# Altium footprint library SparkFun-Hardware.PCBLIB: 30 footprints (part 1 of 2)
Each footprint in its own frame and in the unit in brackets; x right, y up, seen from the top. Pads: shape width x height; smd on the part's side, far side on the other; paste and mask are expansions set on the pad; w line width, h text height; cw(c..) or ccw(c..) is an arc to the next point about the centre after c.
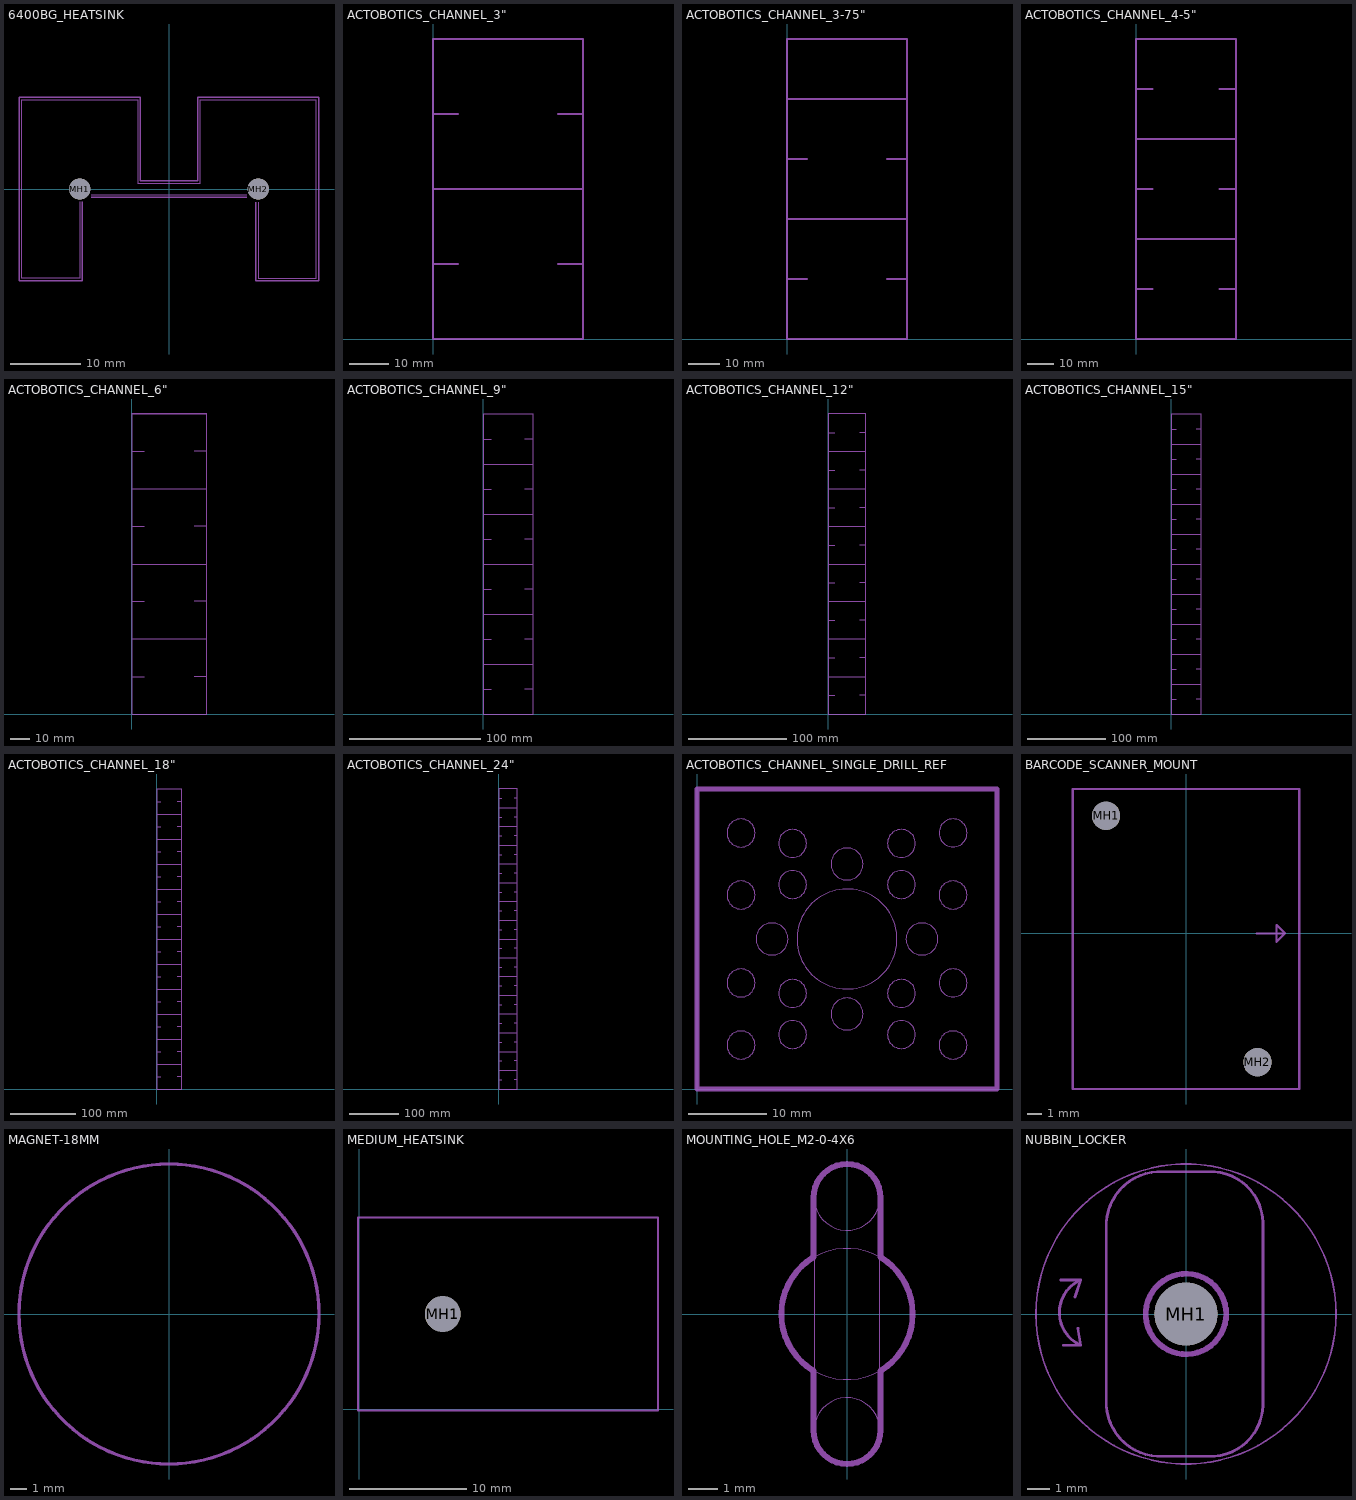
[diagram p0: the footprints below, top view; thin cyan lines are the x and y axes]

## 6400BG_HEATSINK [mil]
pads (2):
  round 118 hole 118 unplated: MH1(-500,0) MH2(500,0)
tDocu:
  lines w5: -500,-70 -500,-500 -825,-500 -825,500 -175,500 -175,31 175,31 175,500 825,500 825,-500 500,-500 500,-75 ; -435,-31 435,-31
tPlace:
  lines w8: -485,-70 -485,-515 -840,-515 -840,515 -160,515 -160,46 160,46 160,515 840,515 840,-515 485,-515 485,-75 ; -435,-46 435,-46

## ACTOBOTICS_CHANNEL_3" [mm]
tDocu:
  lines w0.61: 6.35,19.05 0,19.05 ; 6.35,57.15 0,57.15 ; 31.75,19.05 38.1,19.05 ; 31.75,57.15 38.1,57.15 ; 0,19.05 0,38.1 ; 0,19.05 0,0 38.1,0 38.1,19.05 ; 0,38.1 0,57.15 ; 0,38.1 38.1,38.1 ; 0,57.15 0,76.2 ; 0,76.2 38.1,76.2 ; 0,76.2 38.1,76.2 ; 38.1,19.05 38.1,38.1 ; 38.1,38.1 38.1,57.15 ; 38.1,57.15 38.1,76.2
  text "3" at 19.05,19.05 h5.48

## ACTOBOTICS_CHANNEL_3-75" [mm]
tDocu:
  lines w0.61: 6.35,19.05 0,19.05 ; 6.35,57.15 0,57.15 ; 6.35,95.25 0,95.25 ; 31.75,19.05 38.1,19.05 ; 31.75,57.15 38.1,57.15 ; 31.75,95.25 38.1,95.25 ; 0,19.05 0,38.1 ; 0,19.05 0,0 38.1,0 38.1,19.05 ; 0,38.1 0,57.15 ; 0,38.1 38.1,38.1 ; 0,57.15 0,76.2 ; 0,76.2 0,95.25 ; 0,76.2 38.1,76.2 ; 0,95.25 38.1,95.25 ; 38.1,19.05 38.1,38.1 ; 38.1,38.1 38.1,57.15 ; 38.1,57.15 38.1,76.2 ; 38.1,76.2 38.1,95.25
  text "3.75" at 19.05,19.05 h5.48

## ACTOBOTICS_CHANNEL_4-5" [mm]
tDocu:
  lines w0.61: 0,95.25 6.35,95.25 ; 6.35,19.05 0,19.05 ; 6.35,57.15 0,57.15 ; 31.75,19.05 38.1,19.05 ; 31.75,57.15 38.1,57.15 ; 31.75,95.25 38.1,95.25 ; 0,19.05 0,38.1 ; 0,19.05 0,0 38.1,0 38.1,19.05 ; 0,38.1 0,57.15 ; 0,38.1 38.1,38.1 ; 0,57.15 0,76.2 ; 0,76.2 0,114.3 38.1,114.3 38.1,76.2 ; 0,76.2 38.1,76.2 ; 38.1,19.05 38.1,38.1 ; 38.1,38.1 38.1,57.15 ; 38.1,57.15 38.1,76.2
  text "4.5" at 19.05,19.05 h5.48

## ACTOBOTICS_CHANNEL_6" [mm]
tDocu:
  lines w0.61: 0,95.25 6.35,95.25 ; 0,133.35 6.35,133.35 ; 6.35,19.05 0,19.05 ; 6.35,57.15 0,57.15 ; 31.75,19.05 38.1,19.05 ; 31.75,57.15 38.1,57.15 ; 31.75,95.25 38.1,95.25 ; 31.75,133.35 38.1,133.35 ; 0,19.05 0,38.1 ; 0,19.05 0,0 38.1,0 38.1,19.05 ; 0,38.1 0,57.15 ; 0,38.1 38.1,38.1 ; 0,57.15 0,76.2 ; 0,76.2 0,114.3 ; 0,76.2 38.1,76.2 ; 0,114.3 0,152.4 ; 0,114.3 38.1,114.3 ; 0,152.4 38.1,152.4 ; 0,152.4 38.1,152.4 ; 38.1,19.05 38.1,38.1 ; 38.1,38.1 38.1,57.15 ; 38.1,57.15 38.1,76.2 ; 38.1,76.2 38.1,114.3 ; 38.1,114.3 38.1,152.4
  text "6" at 19.05,19.05 h5.48

## ACTOBOTICS_CHANNEL_9" [mm]
tDocu:
  lines w0.61: 0,95.25 6.35,95.25 ; 0,133.35 6.35,133.35 ; 0,171.45 6.35,171.45 ; 0,209.55 6.35,209.55 ; 6.35,19.05 0,19.05 ; 6.35,57.15 0,57.15 ; 31.75,19.05 38.1,19.05 ; 31.75,57.15 38.1,57.15 ; 31.75,95.25 38.1,95.25 ; 31.75,133.35 38.1,133.35 ; 31.75,171.45 38.1,171.45 ; 31.75,209.55 38.1,209.55 ; 0,19.05 0,38.1 ; 0,19.05 0,0 38.1,0 38.1,19.05 ; 0,38.1 0,57.15 ; 0,38.1 38.1,38.1 ; 0,57.15 0,76.2 ; 0,76.2 0,114.3 ; 0,76.2 38.1,76.2 ; 0,114.3 0,152.4 ; 0,114.3 38.1,114.3 ; 0,152.4 0,190.5 ; 0,152.4 38.1,152.4 ; 0,190.5 0,228.6 38.1,228.6 38.1,190.5 ; 0,190.5 38.1,190.5 ; 38.1,19.05 38.1,38.1 ; 38.1,38.1 38.1,57.15 ; 38.1,57.15 38.1,76.2 ; 38.1,76.2 38.1,114.3 ; 38.1,114.3 38.1,152.4 ; 38.1,152.4 38.1,190.5
  text "9" at 19.05,19.05 h5.48

## ACTOBOTICS_CHANNEL_12" [mm]
tDocu:
  lines w0.61: 0,95.25 6.35,95.25 ; 0,133.35 6.35,133.35 ; 0,171.45 6.35,171.45 ; 0,209.55 6.35,209.55 ; 0,228.6 38.1,228.6 ; 0,247.65 6.35,247.65 ; 0,266.7 38.1,266.7 ; 0,285.75 6.35,285.75 ; 6.35,19.05 0,19.05 ; 6.35,57.15 0,57.15 ; 31.75,19.05 38.1,19.05 ; 31.75,57.15 38.1,57.15 ; 31.75,95.25 38.1,95.25 ; 31.75,133.35 38.1,133.35 ; 31.75,171.45 38.1,171.45 ; 31.75,209.55 38.1,209.55 ; 31.75,247.65 38.1,247.65 ; 31.75,285.75 38.1,285.75 ; 0,19.05 0,38.1 ; 0,19.05 0,0 38.1,0 38.1,19.05 ; 0,38.1 0,57.15 ; 0,38.1 38.1,38.1 ; 0,57.15 0,76.2 ; 0,76.2 0,114.3 ; 0,76.2 38.1,76.2 ; 0,114.3 0,152.4 ; 0,114.3 38.1,114.3 ; 0,152.4 0,190.5 ; 0,152.4 38.1,152.4 ; 0,190.5 0,304.8 38.1,304.8 38.1,190.5 ; 0,190.5 38.1,190.5 ; 38.1,19.05 38.1,38.1 ; 38.1,38.1 38.1,57.15 ; 38.1,57.15 38.1,76.2 ; 38.1,76.2 38.1,114.3 ; 38.1,114.3 38.1,152.4 ; 38.1,152.4 38.1,190.5
  text "12" at 19.05,19.05 h5.48

## ACTOBOTICS_CHANNEL_15" [mm]
tDocu:
  lines w0.61: 0,95.25 6.35,95.25 ; 0,133.35 6.35,133.35 ; 0,171.45 6.35,171.45 ; 0,209.55 6.35,209.55 ; 0,228.6 38.1,228.6 ; 0,247.65 6.35,247.65 ; 0,266.7 38.1,266.7 ; 0,285.75 6.35,285.75 ; 0,323.85 6.35,323.85 ; 0,361.95 6.35,361.95 ; 6.35,19.05 0,19.05 ; 6.35,57.15 0,57.15 ; 31.75,19.05 38.1,19.05 ; 31.75,57.15 38.1,57.15 ; 31.75,95.25 38.1,95.25 ; 31.75,133.35 38.1,133.35 ; 31.75,171.45 38.1,171.45 ; 31.75,209.55 38.1,209.55 ; 31.75,247.65 38.1,247.65 ; 31.75,285.75 38.1,285.75 ; 31.75,323.85 38.1,323.85 ; 31.75,361.95 38.1,361.95 ; 0,19.05 0,38.1 ; 0,19.05 0,0 38.1,0 38.1,19.05 ; 0,38.1 0,57.15 ; 0,38.1 38.1,38.1 ; 0,57.15 0,76.2 ; 0,76.2 0,114.3 ; 0,76.2 38.1,76.2 ; 0,114.3 0,152.4 ; 0,114.3 38.1,114.3 ; 0,152.4 0,190.5 ; 0,152.4 38.1,152.4 ; 0,190.5 0,304.8 ; 0,190.5 38.1,190.5 ; 0,304.8 0,342.9 ; 0,304.8 38.1,304.8 ; 0,342.9 0,381 38.1,381 38.1,342.9 ; 0,342.9 38.1,342.9 ; 38.1,19.05 38.1,38.1 ; 38.1,38.1 38.1,57.15 ; 38.1,57.15 38.1,76.2 ; 38.1,76.2 38.1,114.3 ; 38.1,114.3 38.1,152.4 ; 38.1,152.4 38.1,190.5 ; 38.1,190.5 38.1,304.8 ; 38.1,304.8 38.1,342.9
  text "15" at 19.05,19.05 h5.48

## ACTOBOTICS_CHANNEL_18" [mm]
tDocu:
  lines w0.61: 0,95.25 6.35,95.25 ; 0,133.35 6.35,133.35 ; 0,171.45 6.35,171.45 ; 0,209.55 6.35,209.55 ; 0,228.6 38.1,228.6 ; 0,247.65 6.35,247.65 ; 0,266.7 38.1,266.7 ; 0,285.75 6.35,285.75 ; 0,323.85 6.35,323.85 ; 0,361.95 6.35,361.95 ; 6.35,19.05 0,19.05 ; 6.35,57.15 0,57.15 ; 6.35,400.05 0,400.05 ; 6.35,438.15 0,438.15 ; 31.75,19.05 38.1,19.05 ; 31.75,57.15 38.1,57.15 ; 31.75,95.25 38.1,95.25 ; 31.75,133.35 38.1,133.35 ; 31.75,171.45 38.1,171.45 ; 31.75,209.55 38.1,209.55 ; 31.75,247.65 38.1,247.65 ; 31.75,285.75 38.1,285.75 ; 31.75,323.85 38.1,323.85 ; 31.75,361.95 38.1,361.95 ; 31.75,400.05 38.1,400.05 ; 31.75,438.15 38.1,438.15 ; 0,19.05 0,38.1 ; 0,19.05 0,0 38.1,0 38.1,19.05 ; 0,38.1 0,57.15 ; 0,38.1 38.1,38.1 ; 0,57.15 0,76.2 ; 0,76.2 0,114.3 ; 0,76.2 38.1,76.2 ; 0,114.3 0,152.4 ; 0,114.3 38.1,114.3 ; 0,152.4 0,190.5 ; 0,152.4 38.1,152.4 ; 0,190.5 0,304.8 ; 0,190.5 38.1,190.5 ; 0,304.8 0,342.9 ; 0,304.8 38.1,304.8 ; 0,342.9 0,381 ; 0,342.9 38.1,342.9 ; 0,381 0,400.05 ; 0,381 38.1,381 ; 0,400.05 0,419.1 ; 0,419.1 0,438.15 ; 0,419.1 38.1,419.1 ; 0,438.15 0,457.2 38.1,457.2 38.1,438.15 ; 38.1,19.05 38.1,38.1 ; 38.1,38.1 38.1,57.15 ; 38.1,57.15 38.1,76.2 ; 38.1,76.2 38.1,114.3 ; 38.1,114.3 38.1,152.4 ; 38.1,152.4 38.1,190.5 ; 38.1,190.5 38.1,304.8 ; 38.1,304.8 38.1,342.9 ; 38.1,342.9 38.1,381 ; 38.1,381 38.1,400.05 ; 38.1,400.05 38.1,419.1 ; 38.1,419.1 38.1,438.15
  text "18" at 19.05,19.05 h5.48

## ACTOBOTICS_CHANNEL_24" [mm]
tDocu:
  lines w0.61: 0,95.25 6.35,95.25 ; 0,133.35 6.35,133.35 ; 0,171.45 6.35,171.45 ; 0,209.55 6.35,209.55 ; 0,228.6 38.1,228.6 ; 0,247.65 6.35,247.65 ; 0,266.7 38.1,266.7 ; 0,285.75 6.35,285.75 ; 0,323.85 6.35,323.85 ; 0,361.95 6.35,361.95 ; 0,457.2 38.1,457.2 ; 0,476.25 6.35,476.25 ; 0,495.3 38.1,495.3 ; 0,514.35 6.35,514.35 ; 0,533.4 38.1,533.4 ; 0,552.45 6.35,552.45 ; 0,571.5 38.1,571.5 ; 0,590.55 6.35,590.55 ; 6.35,19.05 0,19.05 ; 6.35,57.15 0,57.15 ; 6.35,400.05 0,400.05 ; 6.35,438.15 0,438.15 ; 31.75,19.05 38.1,19.05 ; 31.75,57.15 38.1,57.15 ; 31.75,95.25 38.1,95.25 ; 31.75,133.35 38.1,133.35 ; 31.75,171.45 38.1,171.45 ; 31.75,209.55 38.1,209.55 ; 31.75,247.65 38.1,247.65 ; 31.75,285.75 38.1,285.75 ; 31.75,323.85 38.1,323.85 ; 31.75,361.95 38.1,361.95 ; 31.75,400.05 38.1,400.05 ; 31.75,438.15 38.1,438.15 ; 31.75,476.25 38.1,476.25 ; 31.75,514.35 38.1,514.35 ; 31.75,552.45 38.1,552.45 ; 31.75,590.55 38.1,590.55 ; 0,19.05 0,38.1 ; 0,19.05 0,0 38.1,0 38.1,19.05 ; 0,38.1 0,57.15 ; 0,38.1 38.1,38.1 ; 0,57.15 0,76.2 ; 0,76.2 0,114.3 ; 0,76.2 38.1,76.2 ; 0,114.3 0,152.4 ; 0,114.3 38.1,114.3 ; 0,152.4 0,190.5 ; 0,152.4 38.1,152.4 ; 0,190.5 0,304.8 ; 0,190.5 38.1,190.5 ; 0,304.8 0,342.9 ; 0,304.8 38.1,304.8 ; 0,342.9 0,381 ; 0,342.9 38.1,342.9 ; 0,381 0,400.05 ; 0,381 38.1,381 ; 0,400.05 0,419.1 ; 0,419.1 0,438.15 ; 0,419.1 38.1,419.1 ; 0,438.15 0,609.6 38.1,609.6 38.1,438.15 ; 38.1,19.05 38.1,38.1 ; 38.1,38.1 38.1,57.15 ; 38.1,57.15 38.1,76.2 ; 38.1,76.2 38.1,114.3 ; 38.1,114.3 38.1,152.4 ; 38.1,152.4 38.1,190.5 ; 38.1,190.5 38.1,304.8 ; 38.1,304.8 38.1,342.9 ; 38.1,342.9 38.1,381 ; 38.1,381 38.1,400.05 ; 38.1,400.05 38.1,419.1 ; 38.1,419.1 38.1,438.15
  text "24" at 19.05,19.05 h5.48

## ACTOBOTICS_CHANNEL_SINGLE_DRILL_REF [mm]
tDocu:
  circle w0.025: c5.588,5.588 r1.778
  circle w0.025: c25.965,25.965 r1.778
  circle w0.025: c5.588,32.512 r1.778
  circle w0.025: c32.512,5.588 r1.778
  circle w0.025: c32.521,32.521 r1.778
  circle w0.025: c12.135,25.965 r1.778
  circle w0.025: c12.135,12.135 r1.778
  circle w0.025: c25.965,12.135 r1.778
  circle w0.025: c19.05,19.05 r6.35
  circle w0.025: c5.588,24.638 r1.778
  circle w0.025: c32.512,24.638 r1.778
  circle w0.025: c12.135,31.185 r1.778
  circle w0.025: c25.965,31.185 r1.778
  circle w0.025: c19.05,28.575 r2.032
  circle w0.025: c19.05,9.525 r2.032
  circle w0.025: c28.575,19.05 r2.032
  circle w0.025: c9.525,19.05 r2.032
  circle w0.025: c25.965,6.915 r1.778
  circle w0.025: c5.588,13.462 r1.778
  circle w0.025: c32.521,13.471 r1.778
  circle w0.025: c12.135,6.915 r1.778
  circle w0.025: c5.588,5.588 r1.778
  circle w0.025: c25.965,25.965 r1.778
  circle w0.025: c5.588,32.512 r1.778
  circle w0.025: c32.512,5.588 r1.778
  circle w0.025: c32.521,32.521 r1.778
  circle w0.025: c12.135,25.965 r1.778
  circle w0.025: c12.135,12.135 r1.778
  circle w0.025: c25.965,12.135 r1.778
  circle w0.025: c19.05,19.05 r6.35
  circle w0.025: c19.05,9.525 r2.032
  circle w0.025: c5.588,24.638 r1.778
  circle w0.025: c32.512,24.638 r1.778
  circle w0.025: c12.135,31.185 r1.778
  circle w0.025: c25.965,31.185 r1.778
  circle w0.025: c19.05,28.575 r2.032
  circle w0.025: c25.965,25.965 r1.778
  circle w0.025: c5.588,32.512 r1.778
  circle w0.025: c32.521,32.521 r1.778
  circle w0.025: c12.135,25.965 r1.778
  circle w0.025: c5.588,24.638 r1.778
  circle w0.025: c32.512,24.638 r1.778
  circle w0.025: c12.135,31.185 r1.778
  circle w0.025: c25.965,31.185 r1.778
  circle w0.025: c19.05,28.575 r2.032
  lines w0.61: 0,0 0,38.1 38.1,38.1 38.1,0 0,0
  text "0.5\"" at 19.05,19.05 h1.08
  text "0.14\"" at 12.135,31.185 h0.52
  text "0.14\"" at 25.965,31.185 h0.52
  text "0.14\"" at 32.521,32.521 h0.52
  text "0.14\"" at 32.512,24.638 h0.52
  text "0.14\"" at 25.965,25.965 h0.52
  text "0.14\"" at 32.521,13.471 h0.52
  text "0.14\"" at 25.965,12.135 h0.52
  text "0.14\"" at 32.512,5.588 h0.52
  text "0.14\"" at 25.965,6.915 h0.52
  text "0.14\"" at 5.588,24.638 h0.52
  text "0.14\"" at 12.135,25.965 h0.52
  text "0.14\"" at 5.588,13.462 h0.52
  text "0.14\"" at 12.135,12.135 h0.52
  text "0.14\"" at 12.135,6.915 h0.52
  text "0.14\"" at 5.588,5.588 h0.52
  text "0.14\"" at 5.588,32.512 h0.52
  text "0.16\"" at 19.05,28.575 h0.52
  text "0.16\"" at 28.575,19.05 h0.52
  text "0.16\"" at 9.525,19.05 h0.52
  text "0.16\"" at 19.05,9.525 h0.52

## BARCODE_SCANNER_MOUNT [mm]
pads (2):
  round 2 hole 2 unplated: MH1(-5.65,8.3) MH2(5.05,-9.1)
tDocu:
  text "connector side" at -7,-10 h0.94
bDocu:
  lines w0.152: -8,-11 8,-11 8,10.2 -8,10.2 -8,-11
tPlace:
  lines w0.152: 5,0 7,0 ; 7,0 6.4,0.6 6.4,-0.6 7,0 ; -8,-11 8,-11 8,10.2 -8,10.2 -8,-11
  text "Lens This Way" at 3,5 h1.57

## MAGNET-18MM [mm]
tPlace:
  circle w0.203: c0,0 r9

## MEDIUM_HEATSINK [mil]
pads (1):
  round 120 hole 120 unplated: MH1(280,320)
Bottom Solder:
  region: 0,0 0,640 1000,640 1000,0
bPlace:
  lines w6: -5,-5 1005,-5 1005,645 -5,645 -5,-5

## MOUNTING_HOLE_M2-0-4X6 [mm]
Dimension:
  lines w0.203: -1.15,-4 -1.15,-1.95 cw(c0.018,0) -1.15,1.95 -1.15,4 cw(c0,4) 1.15,4 1.15,1.95 cw(c-0.018,0) 1.15,-1.95 1.15,-4 cw(c0,-4) -1.15,-4
  text "Out'" at 0,0 h0.78
tDocu:
  circle w0.03: c0,0 r2.25
  circle w0.03: c0,-4 r1.125
  circle w0.03: c0,4 r1.125
  lines w0.03: -1.125,-4 -1.125,4 ; 1.125,-4 1.125,4

## NUBBIN_LOCKER [mil]
pads (1):
  round 110 hole 110 unplated: MH1(0,0)
Reference:
  circle w10: c0,0 r70.71
  circle w3: c0,0 r263.48
  lines w5: -220,60 -185,60 -195,30 ; -215,-55 -185,-55 -190,-25 ; -189.48,57.67 ccw(c-159.98,2.55) -186.43,-54.09 ; -140,-150 -140,150 cw(c-45,155) -50,250 50,250 cw(c42.5,157.5) 135,150 135,-150 cw(c42.5,-157.5) 50,-250 -50,-250 cw(c-45,-155) -140,-150